# Altium schematic symbol library 0154004.DR.SchLib: 1 symbol
Pins are listed as number, name and electrical type; pins without a type are passive.

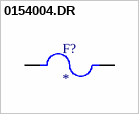
[diagram p0: symbol 0154004.DR]

## 0154004.DR
designator F?
Nano2 SMD FF submin fuse w/holder, 4A | Littelfuse 0154004.DR; MF: Littelfuse Inc.; SnapEDA_Link: https://www.snapeda.com/parts/0154004.DR/Littelfuse/view-part/?ref=snap; Package: SMD-2 Littelfuse; Value: *; MP: 0154004.DR; Check_prices: https://www.snapeda.com/parts/0154004.DR/Littelfuse/view-part/?ref=eda
footprint FUSE_0154004.DR
pins: 1, 2